# Altium schematic symbol library Components - 02.03.22 - 20.49.SchLib: 3 symbols
Pins are listed as number, name and electrical type; pins without a type are passive.

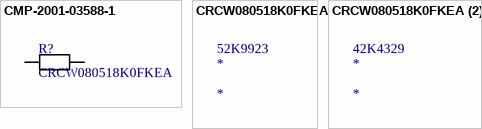
[diagram p0: symbols CMP-2001-03588-1 to CRCW080518K0FKEA (2)]

## CMP-2001-03588-1
designator R?, comment CRCW080518K0FKEA
Manufacturer: Vishay Dale; Part Number: CRCW080518K0FKEA
footprint RESC2013X50X30ML20T20 (Chip Resistor, 2-Leads, Body 2.00x1.25mm, IPC Low Density)
footprint RESC2013X50X30NL20T20 (Chip Resistor, 2-Leads, Body 2.00x1.25mm, IPC Medium Density)
footprint RESC2013X50X30LL20T20 (Chip Resistor, 2-Leads, Body 2.00x1.25mm, IPC High Density)
pins: 1, 2
1 alternate drawing of the same symbol

## CRCW080518K0FKEA
designator *  Supplier Part Number 1: 52K9923
Res Thick Film 0805 18K Ohm 1% 1/8W ±100ppm/°C Molded SMD SMD Paper T/R; Manufacturer: Vishay; Manufacturer Part Number: CRCW080518K0FKEA; Resistance: 18kR; Power Rating: 125mW; Voltage Rating: 150V; Supplier 1: Newark; RoHS: Yes; Category: Chip SMD Resistors; Stock 1: 5000; Pricing 1: 1=0,15000, 25=0,08500, 50=0,06000, 100=0,03500 (USD); Case/Package: 0805; Number of Pins: 2; Case Code (Metric): 2012; Case Code (Imperial): 0805; Contact Plating: Tin; Weight: 0.000194oz; Min Operating Temperature: -55°C; Max Operating Temperature: 155°C; Resistor Type: Thick Film; Tolerance: 1%; Packaging: Tape and Reel; Number of Terminations: 2; Temperature Coefficient: 100ppm/°C; Max Power Dissipation: 125mW; Voltage Rating (DC): 150V; Series: CRCW; Resistance Tolerance: 1%; Construction: Rectangular; Package Quantity: 10; Features: Automotive AEC-Q200; Termination: SMD/SMT; Technology: THICK FILM; Working Voltage: 150V; Length: 2mm; Width: 0.049inch; Height: 0.45mm; Depth: 1.25mm; Radiation Hardening: No; REACH SVHC: Unknown; Military Standard: Not; RoHS Compliant: Yes; Lead Free: Lead Free; ComponentLink1URL: https://datasheet.ciiva.com/11810/0900766b80d98b26-11810092.pdf?src-supplier=RSComponents; ComponentLink1Description: https://datasheet.ciiva.com/11810/0900766b80d98b26-11810092.pdf?src-supplier=RSComponents; ComponentLink2URL: https://datasheet.ciiva.com/2467/dcrcwe3-2467587.pdf?src-supplier=Digi-Key; ComponentLink2Description: https://datasheet.ciiva.com/2467/dcrcwe3-2467587.pdf?src-supplier=Digi-Key; ComponentLink3URL: https://datasheet.ciiva.com/2467/dcrcwe3-2467588.pdf?src-supplier=Digi-Key; ComponentLink3Description: https://datasheet.ciiva.com/2467/dcrcwe3-2467588.pdf?src-supplier=Digi-Key; ComponentLink4URL: https://datasheet.ciiva.com/2467/dcrcwe3-2467589.pdf?src-supplier=Digi-Key; ComponentLink4Description: https://datasheet.ciiva.com/2467/dcrcwe3-2467589.pdf?src-supplier=Digi-Key; ComponentLink5URL: https://datasheet.ciiva.com/9035/dcrcwe3-9035174.pdf?src-supplier=Avnet; ComponentLink5Description: https://datasheet.ciiva.com/9035/dcrcwe3-9035174.pdf?src-supplier=Avnet; ComponentLink6URL: https://datasheet.ciiva.com/26317/fld-crcw-e3-data-en-26317159.pdf?src-supplier=Distrelec; ComponentLink6Description: https://datasheet.ciiva.com/26317/fld-crcw-e3-data-en-26317159.pdf?src-supplier=Distrelec; ComponentLink7URL: https://datasheet.ciiva.com/7841/1697337-7841640.pdf?src-supplier=Element14; ComponentLink7Description: https://datasheet.ciiva.com/7841/1697337-7841640.pdf?src-supplier=Element14; ComponentLink8URL: https://datasheet.ciiva.com/16771/70201119-16771992.pdf?src-supplier=Allied+Electronics; ComponentLink8Description: https://datasheet.ciiva.com/16771/70201119-16771992.pdf?src-supplier=Allied+Electronics; ComponentLink9URL: https://datasheet.ciiva.com/16202/dcrcw-16202233.pdf?src-supplier=Future+Electronics; ComponentLink9Description: https://datasheet.ciiva.com/16202/dcrcw-16202233.pdf?src-supplier=Future+Electronics; ComponentLink10URL: https://datasheet.ciiva.com/17186/dcrcwe3-17186219.pdf?src-supplier=Avnet+Europe; ComponentLink10Description: https://datasheet.ciiva.com/17186/dcrcwe3-17186219.pdf?src-supplier=Avnet+Europe; ComponentLink11URL: https://datasheet.ciiva.com/5542/dcrcwe3-109170-5542511.pdf?src-supplier=Mouser; ComponentLink11Description: https://datasheet.ciiva.com/5542/dcrcwe3-109170-5542511.pdf?src-supplier=Mouser

## CRCW080518K0FKEA (2)
designator *  Supplier Part Number 1: 42K4329
Res Thick Film 0805 18K Ohm 1% 1/8W ±100ppm/°C Molded SMD SMD Paper T/R; Manufacturer: Vishay; Manufacturer Part Number: CRCW080518K0FKEA; Resistance: 18kR; Max Power Dissipation: 125mW; Voltage Rating (DC): 150V; Supplier 1: Newark; RoHS: Yes; Category: Chip SMD Resistors; Stock 1: 10000; Pricing 1: 1=0,01100, 5000=0,01100 (USD); Case/Package: 0805; Number of Pins: 2; Case Code (Metric): 2012; Case Code (Imperial): 0805; Contact Plating: Tin; Weight: 0.000194oz; Min Operating Temperature: -55°C; Max Operating Temperature: 155°C; Resistor Type: Thick Film; Tolerance: 1%; Packaging: Tape and Reel; Number of Terminations: 2; Temperature Coefficient: 100ppm/°C; Series: CRCW; Power Rating: 125mW; Voltage Rating: 150V; Package Quantity: 10; Features: Automotive AEC-Q200; Construction: Rectangular; Termination: SMD/SMT; Resistance Tolerance: 1%; Technology: THICK FILM; Working Voltage: 150V; Length: 2mm; Width: 0.049inch; Height: 0.45mm; Depth: 1.25mm; Radiation Hardening: No; RoHS Compliant: Yes; Lead Free: Lead Free; Military Standard: Not; REACH SVHC: Unknown; ComponentLink1URL: https://datasheet.ciiva.com/11810/0900766b80d98b26-11810092.pdf?src-supplier=RSComponents; ComponentLink1Description: https://datasheet.ciiva.com/11810/0900766b80d98b26-11810092.pdf?src-supplier=RSComponents; ComponentLink2URL: https://datasheet.ciiva.com/2467/dcrcwe3-2467587.pdf?src-supplier=Digi-Key; ComponentLink2Description: https://datasheet.ciiva.com/2467/dcrcwe3-2467587.pdf?src-supplier=Digi-Key; ComponentLink3URL: https://datasheet.ciiva.com/2467/dcrcwe3-2467588.pdf?src-supplier=Digi-Key; ComponentLink3Description: https://datasheet.ciiva.com/2467/dcrcwe3-2467588.pdf?src-supplier=Digi-Key; ComponentLink4URL: https://datasheet.ciiva.com/2467/dcrcwe3-2467589.pdf?src-supplier=Digi-Key; ComponentLink4Description: https://datasheet.ciiva.com/2467/dcrcwe3-2467589.pdf?src-supplier=Digi-Key; ComponentLink5URL: https://datasheet.ciiva.com/9035/dcrcwe3-9035174.pdf?src-supplier=Avnet; ComponentLink5Description: https://datasheet.ciiva.com/9035/dcrcwe3-9035174.pdf?src-supplier=Avnet; ComponentLink6URL: https://datasheet.ciiva.com/26317/fld-crcw-e3-data-en-26317159.pdf?src-supplier=Distrelec; ComponentLink6Description: https://datasheet.ciiva.com/26317/fld-crcw-e3-data-en-26317159.pdf?src-supplier=Distrelec; ComponentLink7URL: https://datasheet.ciiva.com/7841/1697337-7841640.pdf?src-supplier=Element14; ComponentLink7Description: https://datasheet.ciiva.com/7841/1697337-7841640.pdf?src-supplier=Element14; ComponentLink8URL: https://datasheet.ciiva.com/16771/70201119-16771992.pdf?src-supplier=Allied+Electronics; ComponentLink8Description: https://datasheet.ciiva.com/16771/70201119-16771992.pdf?src-supplier=Allied+Electronics; ComponentLink9URL: https://datasheet.ciiva.com/16202/dcrcw-16202233.pdf?src-supplier=Future+Electronics; ComponentLink9Description: https://datasheet.ciiva.com/16202/dcrcw-16202233.pdf?src-supplier=Future+Electronics; ComponentLink10URL: https://datasheet.ciiva.com/17186/dcrcwe3-17186219.pdf?src-supplier=Avnet+Europe; ComponentLink10Description: https://datasheet.ciiva.com/17186/dcrcwe3-17186219.pdf?src-supplier=Avnet+Europe; ComponentLink11URL: https://datasheet.ciiva.com/5542/dcrcwe3-109170-5542511.pdf?src-supplier=Mouser; ComponentLink11Description: https://datasheet.ciiva.com/5542/dcrcwe3-109170-5542511.pdf?src-supplier=Mouser